# Altium schematic symbol library TTC_PCBEvalBoard.SCHLIB: 25 symbols
Pins are listed as number, name and electrical type; pins without a type are passive.

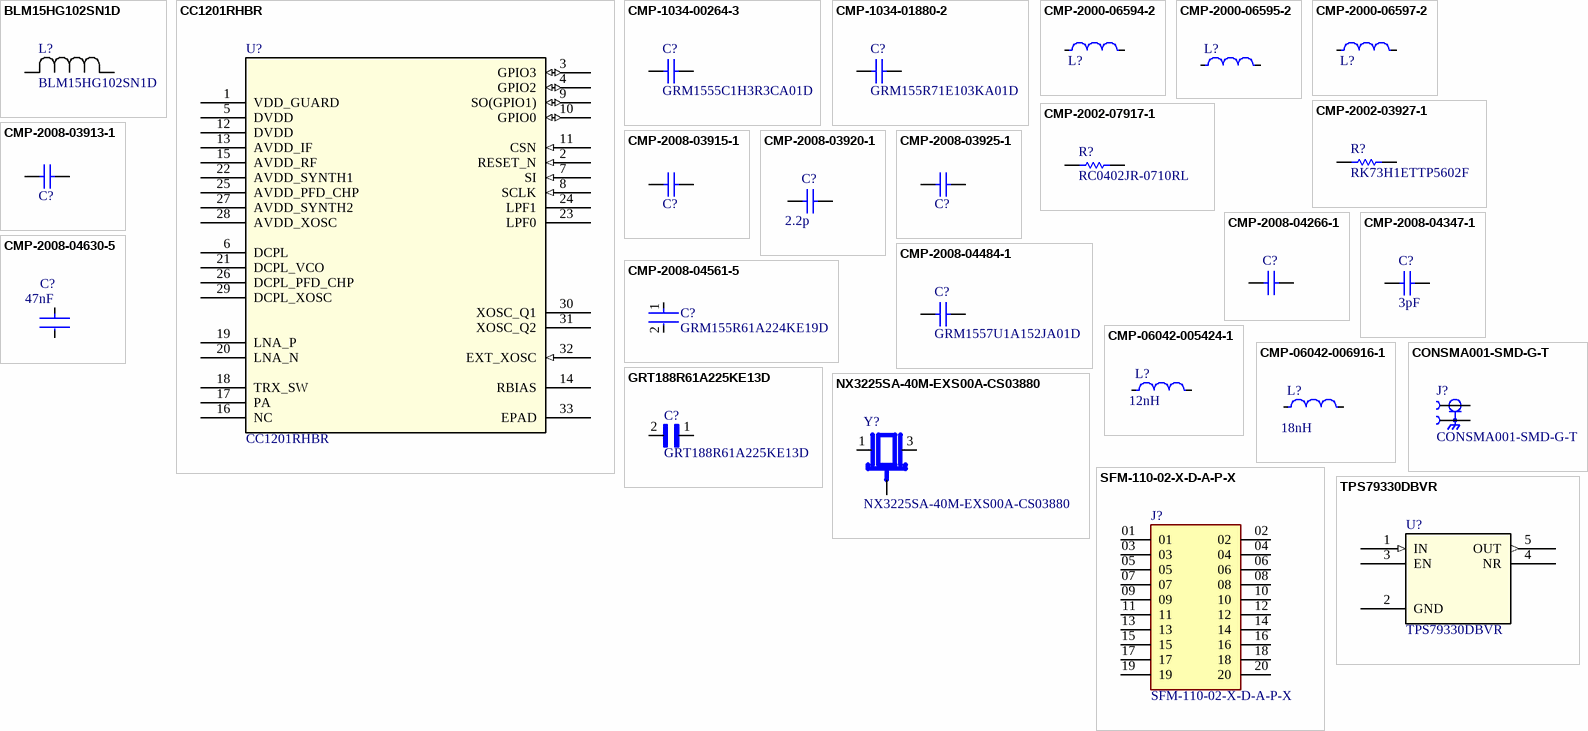
[diagram p0: symbols BLM15HG102SN1D to TPS79330DBVR]

## BLM15HG102SN1D
designator L?
No Description Available; Mfr_Name: Murata
footprint IND_BLM15_0402_MUR
pins: 1, 2

## CC1201RHBR
designator U?
No Description Available; Mfr_Name: Texas Instruments; RefDes: RefDes; Type: Type
footprint RHB32_3P45X3P45_TEX
pins: 1 VDD_GUARD (power), 2 RESET_N (in), 3 GPIO3 (io), 4 GPIO2 (io), 5 DVDD (power), 6 DCPL (power), 7 SI (in), 8 SCLK (in), 9 SO(GPIO1) (io), 10 GPIO0 (io), 11 CSN (in), 12 DVDD (power), 13 AVDD_IF (power), 14 RBIAS, 15 AVDD_RF (power), 16 NC, 17 PA, 18 TRX_SW, 19 LNA_P, 20 LNA_N, 21 DCPL_VCO (power), 22 AVDD_SYNTH1 (power), 23 LPF0, 24 LPF1, 25 AVDD_PFD_CHP (power), 26 DCPL_PFD_CHP (power), 27 AVDD_SYNTH2 (power), 28 AVDD_XOSC (power), 29 DCPL_XOSC (power), 30 XOSC_Q1, 31 XOSC_Q2, 32 EXT_XOSC (in), 33 EPAD

## CMP-1034-00264-3
designator C?, comment GRM1555C1H3R3CA01D
Chip Capacitor, 3.3 pF, +/- 0.25 pF, 50 V, -55 to 125 degC, 0402 (1005 Metric), RoHS, Tape and Reel; Type (Capacitors): C0G; Voltage Rating: 50 V; Capacitance: 3.3 pF; PartNumber: GRM1555C1H3R3CA01D; Package Quantity: 10000; Mounting Technology: Surface Mount; Case Code (Metric): 1005; ComponentLink1Description: Manufacturer URL; PackageDescription: 2-Pin Surface Mount Device, Body 1 x 0.5 mm; Length: 0.039 inch; RoHSCompliant: true; ComponentLink1URL: http://www.murata.com/; Height: 0.5 mm; Max Operating Temperature: 125 degC; REACH SVHC: No SVHC; ComponentLink2URL: http://search.murata.co.jp/Ceramy/image/img/A01X/G101/ENG/GRM1555C1H3R3CA01-01.pdf; Width: 0.02 inch; Mount: Surface Mount; Min Operating Temperature: -55 degC; Case Code (Imperial): 0402; Case/Package: 0402; Radiation Hardening: No; Voltage Rating (DC): 50 V; ComponentLink2Description: Datasheet; Packaging: Tape and Reel; DatasheetVersion: 03/2016
footprint CAPC1005X55X25NL5T10 (Chip Capacitor, 2-Leads, Body 1.05x0.55mm, IPC Medium Density)
footprint CAPC1005X55X25LL5T10 (Chip Capacitor, 2-Leads, Body 1.05x0.55mm, IPC High Density)
footprint CAPC1005X55X25ML5T10 (Chip Capacitor, 2-Leads, Body 1.05x0.55mm, IPC Low Density)
pins: 1, 2

## CMP-1034-01880-2
designator C?, comment GRM155R71E103KA01D
Manufacturer: Murata; Part Number: GRM155R71E103KA01D
footprint CAPC1005X55X25LL05T10 (Chip Capacitor, 2-Leads, Body 1.00x0.50mm, IPC High Density)
footprint CAPC1005X55X25NL05T10 (Chip Capacitor, 2-Leads, Body 1.00x0.50mm, IPC Medium Density)
footprint CAPC1005X55X25ML05T10 (Chip Capacitor, 2-Leads, Body 1.00x0.50mm, IPC Low Density)
pins: 1, 2
1 alternate drawing of the same symbol

## CMP-2000-06594-2
designator L?, comment LQW15AN10NJ00D  (value not drawn)
Wire Wound RF Inductor 10nH ±5% 500mA 0.17Ω 0402 (1005); Self Resonant Frequency: 5.5GHz; Q Factor: 25; Core Material: Air; DC Resistance (DCR): 170mR; Test Frequency: 100MHz; Shielding: Unshielded; Packaging: Tape and Reel; Width: 0.02inch; Case Code (Metric): 1005; Case/Package: 0402; Lead Free: Lead Free; Inductance: 10nH; Case Code (Imperial): 0402; Package Quantity: 10000; Military Standard: Not; Max Operating Temperature: 125°C; DC Current: 500mA; Depth: 0.7mm; Height: 0.5mm; Radiation Hardening: No; Tolerance: 5%; Termination: SMD/SMT; Resistor Type: Wirewound; Max DC Current: 500mA; Length: 1mm; Current Rating: 500mA; Mount: Surface Mount; Min Operating Temperature: -55°C; Weight: 2.8E-05oz
footprint FP-LQW15AN_00-W0_6-0_1-MFG
pins: 1, 2

## CMP-2000-06595-2
designator L?, comment LQW15AN15NJ00D  (value not drawn)
Wire Wound RF Inductor 15nH ±5% 460mA 0.16Ω 0402 (1005); Test Frequency: 100MHz; DC Resistance (DCR): 160mR; Shielding: Unshielded; Q Factor: 30; Core Material: Air; Self Resonant Frequency: 5GHz; Resistor Type: Wirewound; DC Current: 460mA; Inductance: 15nH; Weight: 2.8E-05oz; Radiation Hardening: No; Depth: 0.7mm; Package Quantity: 10000; Case/Package: 0402; Packaging: Tape and Reel; Length: 1mm; Max DC Current: 460mA; Case Code (Imperial): 0402; Tolerance: 5%; Min Operating Temperature: -55°C; Lead Free: Lead Free; Width: 0.02inch; Case Code (Metric): 1005; Termination: SMD/SMT; Military Standard: Not; Current Rating: 460mA; Height: 0.5mm; Mount: Surface Mount; Max Operating Temperature: 125°C
footprint FP-LQW15AN_00-W0_6-0_1-MFG
pins: 1, 2

## CMP-2000-06597-2
designator L?, comment LQW15AN7N5G00D  (value not drawn)
Wire Wound RF Inductor 7.5nH ±2% 570mA 0.13Ω 0402 (1005); Current: 540mA; Core Material: Air; Shielding: Unshielded; Self Resonant Frequency: 6GHz; DC Resistance (DCR): 130mR; Test Frequency: 100MHz; Q Factor: 25; Packaging: Tape and Reel; Min Operating Temperature: -55°C; Inductance: 7.5nH; Width: 0.02inch; Height: 0.5mm; Military Standard: Not; Termination: SMD/SMT; REACH SVHC: No SVHC; Weight: 2.8E-05oz; Inductance Tolerance: 2%; Package Quantity: 10000; Current Rating: 570mA; DC Current: 570mA; Resistor Type: Wirewound; Case Code (Metric): 1005; Case/Package: 0402; Length: 1mm; Mount: Surface Mount; Case Code (Imperial): 0402; Max Operating Temperature: 125°C; Radiation Hardening: No; Lead Free: Lead Free; Tolerance: 2%; Number of Pins: 2; Max DC Current: 570mA; Depth: 0.7mm
footprint FP-LQW15AN_00-W0_6-0_1-MFG
pins: 1, 2

## CMP-2002-03927-1
designator R?, comment RK73H1ETTP5602F
Manufacturer: KOA Speer; Part Number: RK73H1ETTP5602F
footprint RESC1005X40X25NL10T10 (Chip Resistor, 2-Leads, Body 1.00x0.50mm, IPC Medium Density)
footprint RESC1005X40X25LL10T10 (Chip Resistor, 2-Leads, Body 1.00x0.50mm, IPC High Density)
footprint RESC1005X40X25ML10T10 (Chip Resistor, 2-Leads, Body 1.00x0.50mm, IPC Low Density)
pins: 1, 2
1 alternate drawing of the same symbol

## CMP-2002-07917-1
designator R?, comment RC0402JR-0710RL
Manufacturer: Yageo / Phycomp; Part Number: RC0402JR-0710RL
footprint RESC1005X40X25NL05T10 (Chip Resistor, 2-Leads, Body 1.00x0.50mm, IPC Medium Density)
footprint RESC1005X40X25ML05T10 (Chip Resistor, 2-Leads, Body 1.00x0.50mm, IPC Low Density)
footprint RESC1005X40X25LL05T10 (Chip Resistor, 2-Leads, Body 1.00x0.50mm, IPC High Density)
pins: 1, 2
1 alternate drawing of the same symbol

## CMP-2008-03913-1
designator C?, comment GRM1555C1H330JA01D  (value not drawn)
Manufacturer: Murata; Part Number: GRM1555C1H330JA01D
footprint CAPC1005X55X25ML05T10 (Chip Capacitor, 2-Leads, Body 1.00x0.50mm, IPC Low Density)
footprint CAPC1005X55X25NL05T10 (Chip Capacitor, 2-Leads, Body 1.00x0.50mm, IPC Medium Density)
footprint CAPC1005X55X25LL05T10 (Chip Capacitor, 2-Leads, Body 1.00x0.50mm, IPC High Density)
pins: 1, 2
1 alternate drawing of the same symbol

## CMP-2008-03915-1
designator C?, comment GRM1555C1H101JA01D  (value not drawn)
Manufacturer: Murata; Part Number: GRM1555C1H101JA01D
footprint CAPC1005X55X25ML05T10 (Chip Capacitor, 2-Leads, Body 1.00x0.50mm, IPC Low Density)
footprint CAPC1005X55X25NL05T10 (Chip Capacitor, 2-Leads, Body 1.00x0.50mm, IPC Medium Density)
footprint CAPC1005X55X25LL05T10 (Chip Capacitor, 2-Leads, Body 1.00x0.50mm, IPC High Density)
pins: 1, 2
1 alternate drawing of the same symbol

## CMP-2008-03920-1
designator C?, comment value 2.2p  (hidden comment: GRM1555C1H2R2CA01D)
Manufacturer: Murata; Part Number: GRM1555C1H2R2CA01D
footprint CAPC1005X55X25ML05T10 (Chip Capacitor, 2-Leads, Body 1.00x0.50mm, IPC Low Density)
footprint CAPC1005X55X25NL05T10 (Chip Capacitor, 2-Leads, Body 1.00x0.50mm, IPC Medium Density)
footprint CAPC1005X55X25LL05T10 (Chip Capacitor, 2-Leads, Body 1.00x0.50mm, IPC High Density)
pins: 1, 2
1 alternate drawing of the same symbol

## CMP-2008-03925-1
designator C?, comment GRM1555C1H1R0BA01D  (value not drawn)
Manufacturer: Murata; Part Number: GRM1555C1H1R0BA01D
footprint CAPC1005X55X25LL05T10 (Chip Capacitor, 2-Leads, Body 1.00x0.50mm, IPC High Density)
footprint CAPC1005X55X25NL05T10 (Chip Capacitor, 2-Leads, Body 1.00x0.50mm, IPC Medium Density)
footprint CAPC1005X55X25ML05T10 (Chip Capacitor, 2-Leads, Body 1.00x0.50mm, IPC Low Density)
pins: 1, 2
1 alternate drawing of the same symbol

## CMP-2008-04266-1
designator C?, comment GRM1555C1H150JA01D  (value not drawn)
Manufacturer: Murata; Part Number: GRM1555C1H150JA01D
footprint CAPC1005X55X25LL05T10 (Chip Capacitor, 2-Leads, Body 1.00x0.50mm, IPC High Density)
footprint CAPC1005X55X25NL05T10 (Chip Capacitor, 2-Leads, Body 1.00x0.50mm, IPC Medium Density)
footprint CAPC1005X55X25ML05T10 (Chip Capacitor, 2-Leads, Body 1.00x0.50mm, IPC Low Density)
pins: 1, 2
1 alternate drawing of the same symbol

## CMP-2008-04347-1
designator C?, comment value 3pF  (hidden comment: GRM1555C1H3R0CA01D)
Manufacturer: Murata; Part Number: GRM1555C1H3R0CA01D
footprint CAPC1005X55X25LL05T10 (Chip Capacitor, 2-Leads, Body 1.00x0.50mm, IPC High Density)
footprint CAPC1005X55X25ML05T10 (Chip Capacitor, 2-Leads, Body 1.00x0.50mm, IPC Low Density)
footprint CAPC1005X55X25NL05T10 (Chip Capacitor, 2-Leads, Body 1.00x0.50mm, IPC Medium Density)
pins: 1, 2
1 alternate drawing of the same symbol

## CMP-2008-04484-1
designator C?, comment GRM1557U1A152JA01D
Manufacturer: Murata; Part Number: GRM1557U1A152JA01D
footprint CAPC1005X55X25ML05T10 (Chip Capacitor, 2-Leads, Body 1.00x0.50mm, IPC Low Density)
footprint CAPC1005X55X25LL05T10 (Chip Capacitor, 2-Leads, Body 1.00x0.50mm, IPC High Density)
footprint CAPC1005X55X25NL05T10 (Chip Capacitor, 2-Leads, Body 1.00x0.50mm, IPC Medium Density)
pins: 1, 2
1 alternate drawing of the same symbol

## CMP-2008-04561-5
designator C?, comment GRM155R61A224KE19D
CAP CER 0.22UF 10V X5R 0402; Tolerance: 10%; Capacitance: 220nF; Material: Ceramic; Insulation Resistance: 10GR; Package Quantity: 1; Termination: SMD/SMT; Max Operating Temperature: 85°C; Voltage: 10V; REACH SVHC: No SVHC; Thickness: 0.022inch; Mount: Surface Mount; Height: 0.5mm; Length: 1mm; Lead Free: Lead Free; Number of Pins: 2; Case Code (Imperial): 0402; Case/Package: 0402; Min Operating Temperature: -55°C; Packaging: Tape and Reel; Dielectric: X5R; Depth: 0.5mm; Series: GRM; Case Code (Metric): 1005; Radiation Hardening: No; RoHS Compliant: Yes; Voltage Rating (DC): 10V; Voltage Rating: 10V; Dielectric Material: Ceramic; Width: 0.5mm
footprint FP-GRM155-0_05-IPC_A
footprint FP-GRM155-0_05-MFG
footprint FP-GRM155-0_05-IPC_B
footprint FP-GRM155-0_05-IPC_C
pins: 1, 2

## CMP-2008-04630-5
designator C?, comment Capacitance: 47nF  (hidden comment: GRM155R71E473KA88D)
Chip Multilayer Ceramic Capacitors for General Purpose, 0402, 47000pF, X7R, 15%, 10%, 25V; Depth: 0.5mm; Case/Package: 0402; Tolerance: 10%; REACH SVHC: No SVHC; Termination: SMD/SMT; Number of Pins: 2; Mount: Surface Mount; Radiation Hardening: No; Height: 0.5mm; Min Operating Temperature: -55°C; Max Operating Temperature: 125°C; Thickness: 0.022inch; Length: 1mm; Voltage Rating (DC): 25V; Material: Ceramic; Lead Free: Lead Free; Packaging: Tape and Reel; Dielectric: X7R; Voltage: 25V; Case Code (Metric): 1005; Width: 0.02inch; Case Code (Imperial): 0402; Voltage Rating: 25V; Package Quantity: 1
footprint FP-GRM155-0_05-MFG
footprint FP-GRM155-0_05-IPC_B
footprint FP-GRM155-0_05-IPC_A
footprint FP-GRM155-0_05-IPC_C
pins: 1, 2

## CMP-06042-005424-1
designator L?, comment value 12nH  (hidden comment: LQW15AN12NJ00D)
Wire Wound RF Inductor 12nH ±5% 500mA 0.14Ω 0402 (1005); Shielding: Unshielded; Self Resonant Frequency: 5.5GHz; Core Material: Air; Test Frequency: 100MHz; Q Factor: 30; DC Resistance (DCR): 140mR; DC Current: 500mA; Case/Package: 0402; Max DC Current: 500mA; Current Rating: 500mA; Mount: Surface Mount; Case Code (Metric): 1005; Military Standard: Not; Inductance: 12nH; Min Operating Temperature: -55°C; Packaging: Tape and Reel; Radiation Hardening: No; Package Quantity: 10000; Max Operating Temperature: 125°C; Resistor Type: Wirewound; Case Code (Imperial): 0402; Tolerance: 5%; Lead Free: Lead Free; Termination: SMD/SMT; Length: 1.1mm; Height: 0.02inch; Depth: 0.7mm; Weight: 2.8E-05oz; Width: 0.5mm
footprint FP-LQW15AN_00-W0_6-0_1-MFG
pins: 1, 2

## CMP-06042-006916-1
designator L?, comment Inductance: 18nH  (hidden comment: LQW15AN18NJ00D)
Wire Wound RF Inductor 18nH ±5% 370mA 0.27Ω 0402 (1005); Q Factor: 25; DC Resistance (DCR): 270mR; Test Frequency: 100MHz; Self Resonant Frequency: 4.5GHz; Core Material: Air; Shielding: Unshielded; Lead Free: Lead Free; Resistor Type: Wirewound; Height: 0.5mm; Width: 0.02inch; Max DC Current: 370mA; Case/Package: 0402; Radiation Hardening: No; Min Operating Temperature: -55°C; Packaging: Tape and Reel; DC Current: 370mA; Tolerance: 5%; Max Operating Temperature: 125°C; Weight: 2.8E-05oz; Current Rating: 370mA; Military Standard: Not; Termination: SMD/SMT; Length: 1mm; Case Code (Metric): 1005; Mount: Surface Mount; Case Code (Imperial): 0402; Package Quantity: 10000; Depth: 0.7mm
footprint FP-LQW15AN_00-W0_6-0_1-MFG
pins: 1, 2

## CONSMA001-SMD-G-T
designator J?
<a href="https://pricing.snapeda.com/parts/CONSMA001-SMD-G-T/Linx%20Technologies/view-part?ref=eda">Check availability</a> <a href="https://pricing.snapeda.com/parts/CONSMA001-SMD-G-T/Linx%20Technologies/view-part?ref=eda">Check availability</a>; Package: None; Price: None; Value: *; MP: CONSMA001-SMD-G-T; Availability: Unavailable
footprint FP-CONSMA001-SMD-G-T-MFG
pins: 1, S1 2, S2 2

## GRT188R61A225KE13D
designator C?
CAP CER 2.2UF 10V X5R 0603; Package: None; Price: None; Value: *; MP: GRT188R61A225KE13D; Availability: Unavailable
footprint CAPC1608X9N
pins: 1, 2

## NX3225SA-40M-EXS00A-CS03880
designator Y?
40MHz Â±10ppm Crystal 10pF 50 Ohms 4-SMD, No Lead; MF: NDK America, Inc.; SnapEDA_Link: https://www.snapeda.com/parts/NX3225SA-40M-EXS00A-CS03880/NDK%20America,%20Inc./view-part/3118804/?ref=snap; Package: SMD-4 NDK America, Inc.; Availability: Unavailable; Price: None; MP: NX3225SA-40M-EXS00A-CS03880; Value: *
footprint OSCCC320X250X60
pins: 1, 2 GND (power), 3, 4 GND (power)

## SFM-110-02-X-D-A-P-X
designator J?
SFM - Samtec 1.27mm Tiger Eyeâ„¢ | High-Reliability Surface Mount Dual Row Socket; MF: Samtec Inc.; MP: SFM-110-02-S-D-A-P-TR; System: Connector; SnapEDA_Link: https://www.snapeda.com/parts/SFM-110-02-S-D-A-P-TR/Samtec+Inc./view-part/?ref=snap; Package: None; Value: *; Check_prices: https://www.snapeda.com/parts/SFM-110-02-S-D-A-P-TR/Samtec+Inc./view-part/?ref=eda
footprint SAMTEC_SFM-110-02-X-D-A-P-X
pins: 01, 02, 03, 04, 05, 06, 07, 08, 09, 10, 11, 12, 13, 14, 15, 16, 17, 18, 19, 20

## TPS79330DBVR
designator U?  (graphical)
No Description Available; Mfr_Name: Texas Instruments; RefDes: RefDes; Type: Type
footprint DBV5_TEX
pins: 1 IN (in), 2 GND (power), 3 EN, 4 NR, 5 OUT (out)